# EAGLE library part ARDUINO_PRO_MINI_5V_V3 (library ArduinoProMini5V)
Arduino Pro Mini 5V/16MHz Version 3: FTDI Pins left on Arduino. No TX0 and TXI pins. Battery monitor and alarm removed.(A3 and D8) Camera pins not used. (A2, A1 and A0) Only 3.3V sensors. (D12 removed) PPM sum signal. (D4 removed)
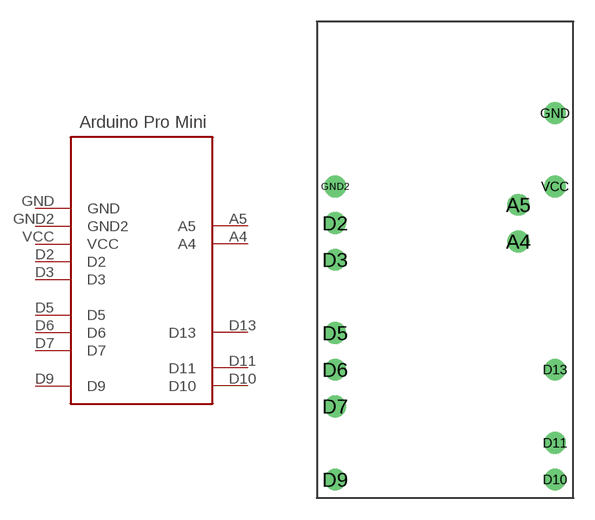
[diagram p2: symbol with the pads of ARDUINO_PRO_MINI_5V_V3; footprint ARDUINO_PRO_MINI_5V_V3]

Designator prefix -

## ARDUINO_PRO_MINI_5V_V3  [ARDUINO_PRO_MINI_5V_V3]
A4  A4
A5  A5
D2  D2
D3  D3
D5  D5
D6  D6
D7  D7
D9  D9
D10  D10
D11  D11
D13  D13
GND  GND
GND2  GND2
VCC  VCC

## Footprint ARDUINO_PRO_MINI_5V_V3 (pad centres in mm)
Arduino Pro Mini 5V/16MHz Version 3: FTDI Pins left on Arduino. No TX0 and TXI pins. Battery monitor and alarm removed.(A3 and D8) Camera pins not used. (A2, A1 and A0) Only 3.3V sensors. (D12 removed) PPM sum signal. (D4 removed)
drill 1: A4 5.08,1.27; A5 5.08,3.81; D2 -7.62,2.54; D3 -7.62,0; D5 -7.62,-5.08; D6 -7.62,-7.62; D7 -7.62,-10.16; D9 -7.62,-15.24; D10 7.62,-15.24; D11 7.62,-12.7; D13 7.62,-7.62; GND 7.62,10.16; GND2 -7.62,5.08; VCC 7.62,5.08